# EAGLE library part 61201422821 (library Wuerth_Elektronik_eiCan_Wire_to_Board_Connectors)
WR-BHD 2.54mm Male Box Header With Lever, 14 Pins=>Code : Con_WTB_BHD_2.54_Male_THT_WS_61201422821 <http://katalog.we-online.de/media/thumbs2/eican/thb_Con_WTB_BHD_2.54_Male_THT_WS_6120xx22821_pf2.jpg> Details see: http://katalog.we-online.de/en/em/612_0xx_228_21 Created 2014-06-05, Karrer Zheng 2014 (C) Würth Elektronik
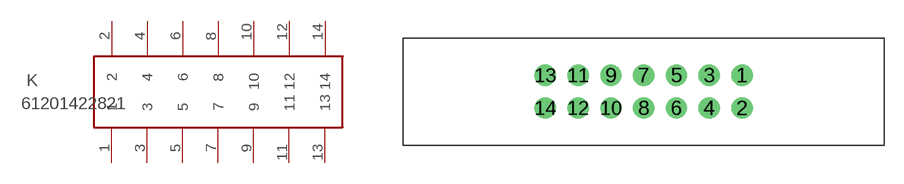
[diagram p135: symbol with the pads of 61201422821; footprint 61201422821]

Designator prefix K

## 61201422821  [61201422821]
1  1  pas
2  2  pas
3  3  pas
4  4  pas
5  5  pas
6  6  pas
7  7  pas
8  8  pas
9  9  pas
10  10  pas
11  11  pas
12  12  pas
13  13  pas
14  14  pas

## Footprint 61201422821 (pad centres in mm)
WR-BHD 2.54mm Male Box Header With Lever, 14 Pins
drill 1.1: 1 5.08,1.27; 2 5.08,-1.27; 3 2.54,1.27; 4 2.54,-1.27; 5 0,1.27; 6 0,-1.27; 7 -2.54,1.27; 8 -2.54,-1.27; 9 -5.08,1.27; 10 -5.08,-1.27; 11 -7.62,1.27; 12 -7.62,-1.27; 13 -10.16,1.27; 14 -10.16,-1.27